# EAGLE library part MICRO_ATTINY84 (library homemade-hardware)
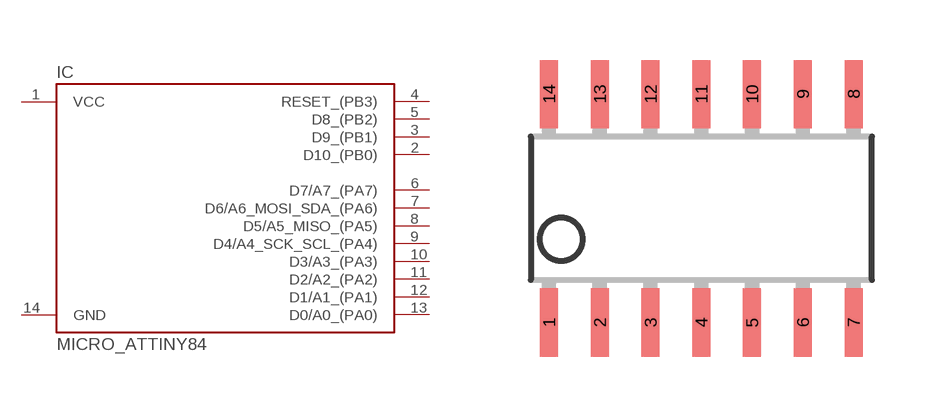
[diagram p12: symbol with the pads of SOIC14; footprint SOIC14]

Designator prefix IC

## MICRO_ATTINY84-SSU  [SOIC14]
1  VCC  pwr
2  D10_(PB0)
3  D9_(PB1)
4  RESET_(PB3)
5  D8_(PB2)
6  D7/A7_(PA7)
7  D6/A6_MOSI_SDA_(PA6)
8  D5/A5_MISO_(PA5)
9  D4/A4_SCK_SCL_(PA4)
10  D3/A3_(PA3)
11  D2/A2_(PA2)
12  D1/A1_(PA1)
13  D0/A0_(PA0)
14  GND  pwr

## Footprint SOIC14 (pad centres in mm)
Small Outline Package
smd 0.45 x 1.708: 1 -3.81,-2.854; 2 -2.54,-2.854; 3 -1.27,-2.854; 4 0,-2.854; 5 1.27,-2.854; 6 2.54,-2.854; 7 3.81,-2.854; 8 3.81,2.854; 9 2.54,2.854; 10 1.27,2.854; 11 0,2.854; 12 -1.27,2.854; 13 -2.54,2.854; 14 -3.81,2.854